# EAGLE library part IS25LP080D-JBLE (library IS25LP080D-JBLE)
INTEGRATED SILICON SOLUTION (ISSI) - IS25LP080D-JBLE - FLASH MEMORY, 8MBIT, 133MHZ, SOIC-8 Source: Datasheet <http://www.issi.com/WW/pdf/25LP-WP080D-040D-020D.pdf>
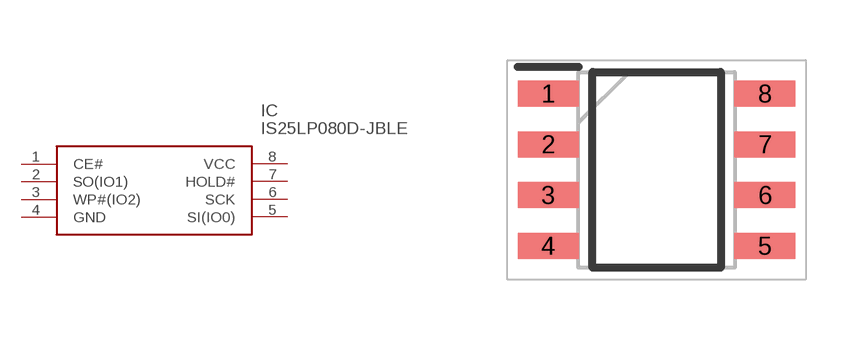
[diagram p0: symbol with the pads of SOIC127P600X175-8N; footprint SOIC127P600X175-8N]

Designator prefix IC

## IS25LP080D-JBLE (Description: INTEGRATED SILICON SOLUTION (ISSI) - IS25LP080D-JBLE - FLASH MEMORY, 8MBIT, 133MHZ, SOIC-8; Height: 1.75mm; Manufacturer_Name: Integrated Silicon Solution Inc.; Manufacturer_Part_Number: IS25LP080D-JBLE; Mouser_Part_Number: 870-IS25LP080D-JBLE; Mouser_Price-Stock: https://www.mouser.co.uk/ProductDetail/ISSI/IS25LP080D-JBLE?qs=pif5%252B9MYt0UXgC3voJKNYA%3D%3D)  [SOIC127P600X175-8N]
1  CE#
2  SO(IO1)
3  WP#(IO2)
4  GND
5  SI(IO0)
6  SCK
7  HOLD#
8  VCC

## Footprint SOIC127P600X175-8N (pad centres in mm)
soic
smd 1.525 x 0.65: 1 -2.712,1.905; 2 -2.712,0.635; 3 -2.712,-0.635; 4 -2.712,-1.905; 5 2.712,-1.905; 6 2.712,-0.635; 7 2.712,0.635; 8 2.712,1.905